# Altium footprint library 发射端转接板库.PcbLib: 10 footprints
Each footprint in its own frame and in the unit in brackets; x right, y up, seen from the top. Pads: shape width x height; smd on the part's side, far side on the other; paste and mask are expansions set on the pad; w line width, h text height; cw(c..) or ccw(c..) is an arc to the next point about the centre after c.
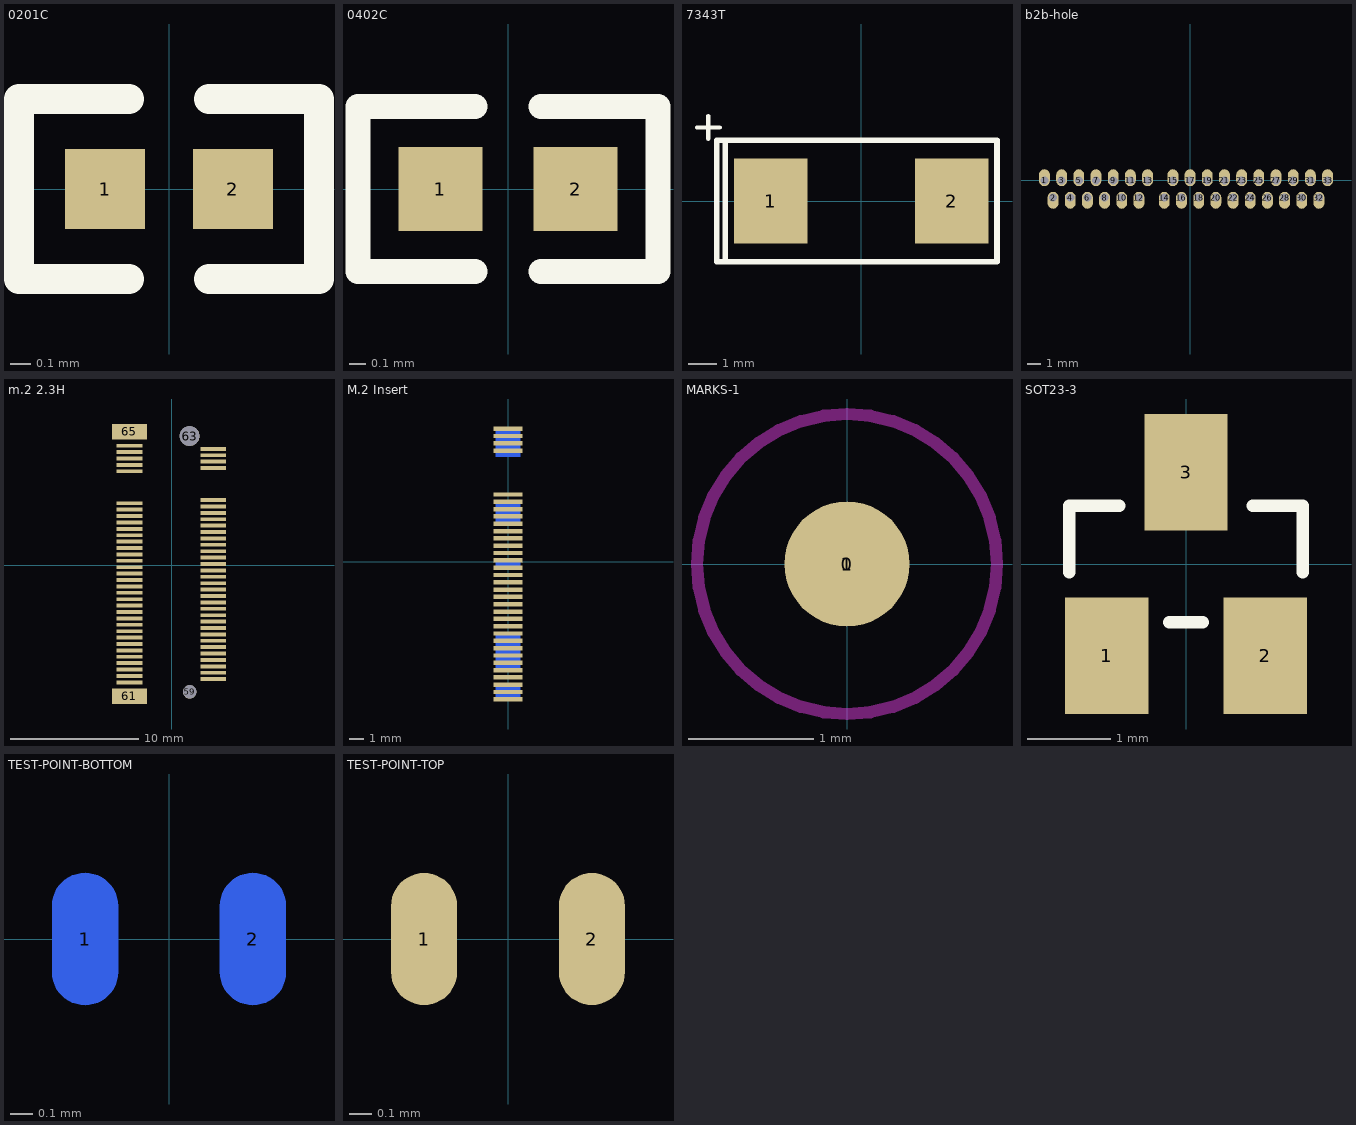
[diagram p0: the footprints below, top view; thin cyan lines are the x and y axes]

## 0201C [mm]
pads (2):
  rect 0.4x0.4 smd: 1(-0.32,0) 2(0.32,0)
Top Overlay:
  lines w0.15: -0.2,-0.45 -0.75,-0.45 -0.75,0.45 -0.2,0.45 ; 0.2,-0.45 0.75,-0.45 0.75,0.45 0.2,0.45

## 0402C [mm]
pads (2):
  rect 0.51x0.51 smd: 1(-0.41,0) 2(0.41,0)
Top Overlay:
  lines w0.15: -0.2,-0.5 -0.91,-0.5 -0.91,0.5 -0.2,0.5 ; 0.2,-0.5 0.91,-0.5 0.91,0.5 0.2,0.5

## 7343T [mm]
pads (2):
  rect 2.6x3 smd: 1(-3.2,0) 2(3.2,0)
Top Overlay:
  lines w0.15: -5.8,2.6 -5,2.6 ; -5.4,2.2 -5.4,3
  lines w0.2: -4.8,-2.15 -4.8,2.15 ; -4.8,-2.15 -4.1,-2.15 4.8,-2.15 4.8,2.15 -4.8,2.15 ; -4.8,-2.15 -5.1,-2.15 -5.1,2.15 -4.8,2.15

## b2b-hole [mm]
pads (33):
  oval 0.8x1.25 hole 0.6 copper offset 0,0.2: 1(-10.762,0) 3(-9.492,0) 5(-8.222,0) 7(-6.952,0) 9(-5.682,0) 11(-4.412,0) 13(-3.142,0) 15(-1.27,0) 17(0,0) 19(1.27,0) 21(2.54,0) 23(3.81,0) 25(5.08,0) 27(6.35,0) 29(7.62,0) 31(8.89,0) 33(10.16,0)
  oval 0.8x1.25 hole 0.6 copper offset 0,-0.2: 2(-10.127,-1.27) 4(-8.857,-1.27) 6(-7.587,-1.27) 8(-6.317,-1.27) 10(-5.047,-1.27) 12(-3.777,-1.27) 14(-1.905,-1.27) 16(-0.635,-1.27) 18(0.635,-1.27) 20(1.905,-1.27) 22(3.175,-1.27) 24(4.445,-1.27) 26(5.715,-1.27) 28(6.985,-1.27) 30(8.255,-1.27) 32(9.525,-1.27)

## m.2 2.3H [mm]
pads (72):
  rect 2x0.3 smd: 1(-3.304,-9.156) 2(3.247,-8.906) 3(-3.304,-8.656) 4(3.247,-8.406) 5(-3.304,-8.156) 6(3.247,-7.906) 7(-3.304,-7.656) 8(3.247,-7.406) 9(-3.304,-7.156) 10(3.247,-6.906) 11(-3.304,-6.656) 12(3.247,-6.406) 13(-3.304,-6.156) 14(3.247,-5.906) 15(-3.304,-5.656) 16(3.247,-5.406) 17(-3.304,-5.156) 18(3.247,-4.906) 19(-3.304,-4.656) 20(3.247,-4.406) 21(-3.304,-4.156) 22(3.247,-3.906) 23(-3.304,-3.656) 24(3.247,-3.406) 25(-3.304,-3.156) 26(3.247,-2.906) 27(-3.304,-2.656) 28(3.247,-2.406) 29(-3.304,-2.156) 30(3.247,-1.906) 31(-3.304,-1.656) 32(3.247,-1.406) 33(-3.304,-1.156) 34(3.247,-0.906) 35(-3.304,-0.656) 36(3.247,-0.406) 37(-3.304,-0.156) 38(3.247,0.094) 39(-3.304,0.344) 40(3.247,0.594) 41(-3.304,0.844) 42(3.247,1.094) 43(-3.304,1.344) 44(3.247,1.594) 45(-3.304,1.844) 46(3.247,2.094) 47(-3.304,2.344) 48(3.247,2.594) 49(-3.304,2.844) 50(3.247,3.094) 51(-3.304,3.344) 52(3.247,3.594) 53(-3.304,3.844) 54(3.247,4.094) 55(-3.304,4.344) 56(3.247,4.594) 57(-3.304,4.844) 57(-3.304,4.844) 58(3.247,5.094) 67(-3.304,7.344) 68(3.247,7.594) 69(-3.304,7.844) 70(3.247,8.094) 71(-3.304,8.344) 72(3.247,8.594) 73(-3.304,8.844) 74(3.247,9.094) 75(-3.304,9.344)
  round 1.05 hole 1.05 unplated mask+0: 59(1.397,-9.906)
  rect 2.75x1.2 smd: 61(-3.304,-10.255) 65(-3.304,10.445)
  round 1.55 hole 1.55 unplated mask+0: 63(1.397,10.094)

## M.2 Insert [mm]
pads (48):
  rect 2x0.3 smd: 1(0,-9.397) 3(0,-8.897) 5(0,-8.397) 7(0,-7.897) 9(0,-7.397) 11(0,-6.897) 13(0,-6.397) 15(0,-5.897) 17(0,-5.397) 19(0,-4.897) 21(0,-4.397) 23(0,-3.897) 25(0,-3.397) 27(0,-2.897) 29(0,-2.397) 31(0,-1.897) 33(0,-1.397) 35(0,-0.897) 37(0,-0.397) 39(0,0.103) 41(0,0.603) 43(0,1.103) 45(0,1.603) 47(0,2.103) 49(0,2.603) 51(0,3.103) 53(0,3.603) 55(0,4.103) 57(0,4.603) 69(0,7.603) 71(0,8.103) 73(0,8.603) 75(0,9.103)
  rect 1.7x0.34 smd far side: 2(0,-9.149) 4(0,-8.649) 10(0,-7.149) 12(0,-6.649) 14(0,-6.149) 16(0,-5.649) 18(0,-5.149) 38(0,-0.149) 50(0,2.851) 52(0,3.351) 54(0,3.851) 68(0,7.351) 70(0,7.851) 72(0,8.351) 74(0,8.851)

## MARKS-1 [mm]
pads (2):
  round 2 on Top Solder: 0(0,0)
  round 1 smd: 1(0,0)
Keep-Out Layer:
  circle w0.1: c0,0 r1.2

## SOT23-3 [mm]
pads (3):
  rect 1x1.4 smd: 1(-0.95,-1.1) 2(0.95,-1.1) 3(0,1.1)
Top Overlay:
  lines w0.15: -1.4,-0.1 -1.4,0.7 -0.8,0.7 ; -0.2,-0.7 0.2,-0.7 ; 0.8,0.7 1.4,0.7 1.4,-0.1

## TEST-POINT-BOTTOM [mm]
pads (2):
  oval 0.3x0.6 smd far side: 1(-0.381,0) 2(0.381,0)

## TEST-POINT-TOP [mm]
pads (2):
  oval 0.3x0.6 smd: 1(-0.381,0) 2(0.381,0)